# Altium footprint library THU VIEN 1.PcbLib: 29 footprints (part 1 of 2)
Each footprint in its own frame and in the unit in brackets; x right, y up, seen from the top. Pads: shape width x height; smd on the part's side, far side on the other; paste and mask are expansions set on the pad; w line width, h text height; cw(c..) or ccw(c..) is an arc to the next point about the centre after c.
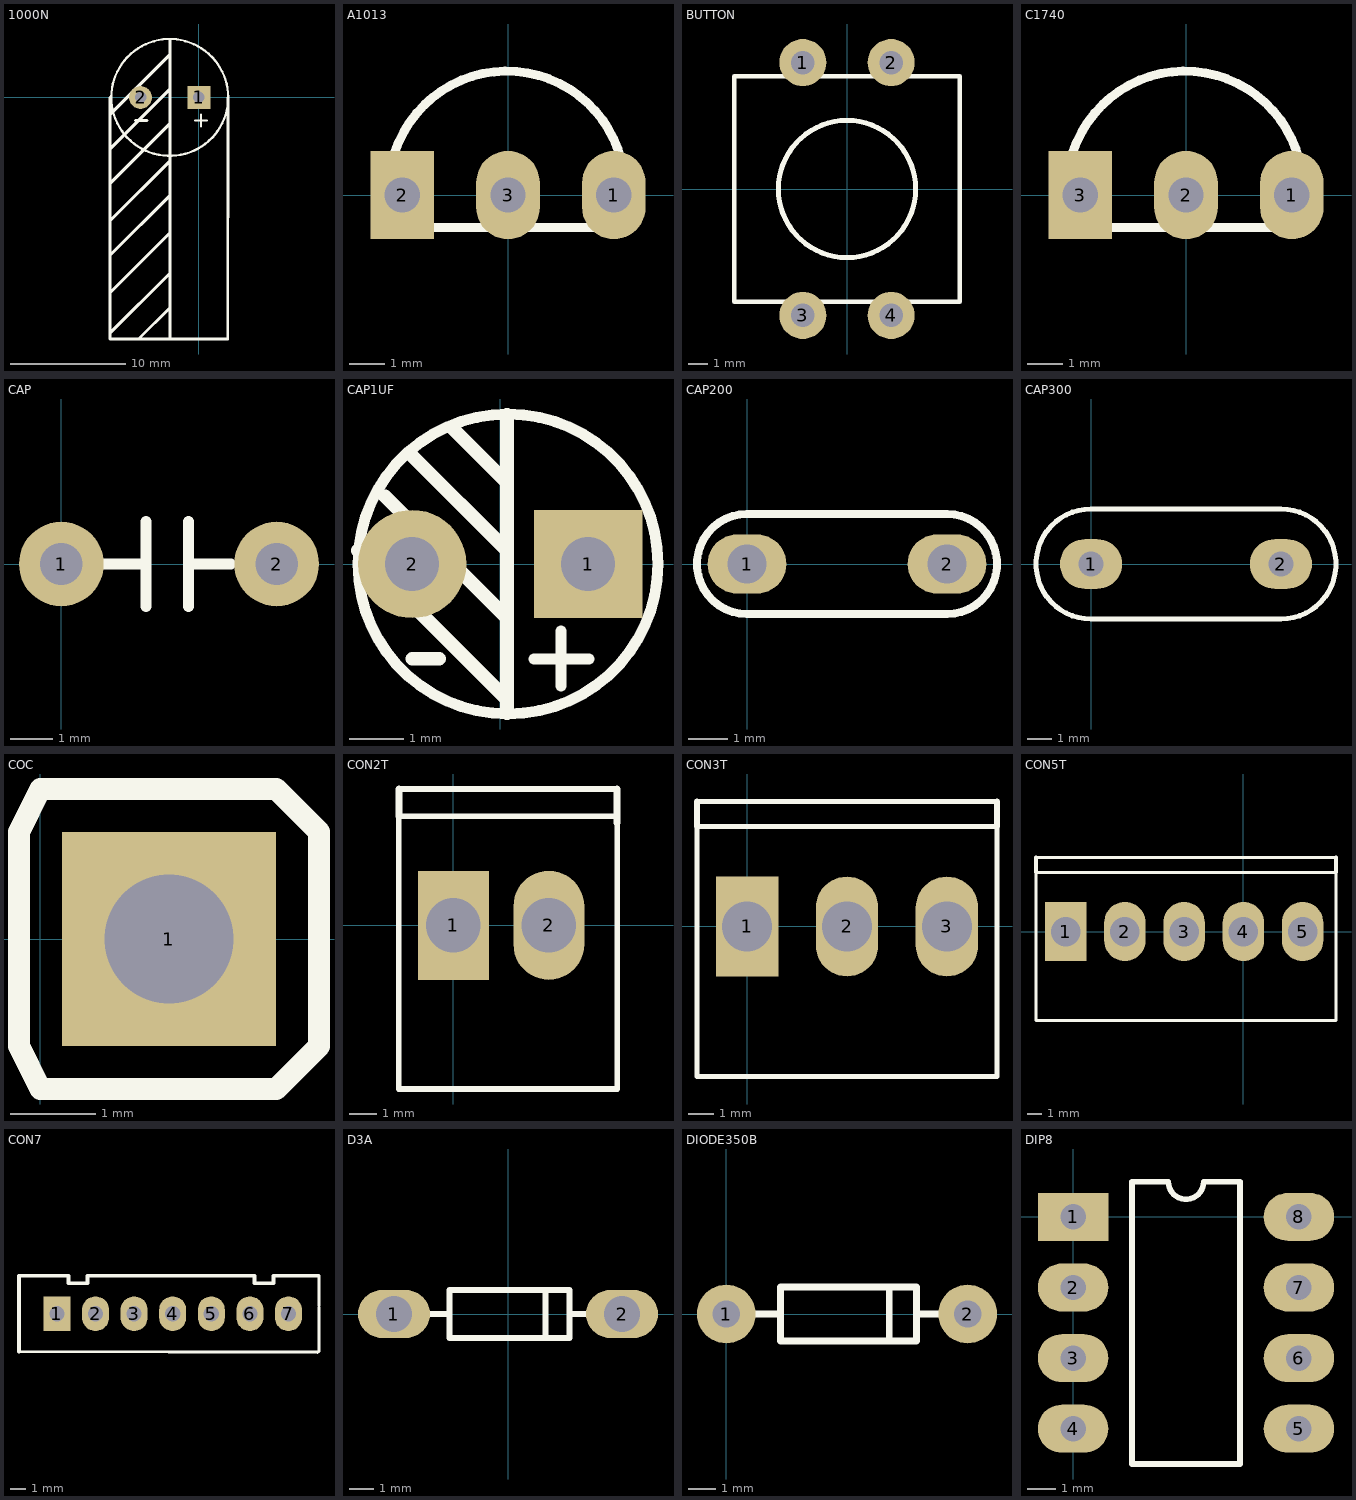
[diagram p0: the footprints below, top view; thin cyan lines are the x and y axes]

## 1000N [mm]
pads (2):
  rect 2x2 hole 1: 1(0,0)
  round 2 hole 1: 2(-5.08,0)
Top Overlay:
  circle w0.203: c-2.54,0 r5.08
  lines w0.203: -0.33,-2 0.686,-2 ; 0.17,-2.516 0.17,-1.5
  lines w0.254: -7.75,-20.5 -2.5,-15.25 ; -7.75,-17 -2.5,-11.75 ; -7.75,-13.75 -2.5,-8.5 ; -7.75,-10.75 -2.5,-5.5 ; -7.75,-7.5 -2.5,-2.25 ; -7.75,-1.5 -2.5,3.75 ; -7.75,0 -7.75,-21 2.5,-21 2.54,0 ; -5.5,-2 -4.5,-2 ; -2.5,-21 -2.5,5 ; -2.5,-18.25 -5.25,-21 ; -2.5,0.75 -7.75,-4.5 ; -7.75,-4.5 -7.75,-4.5 ; -5.25,-21 -5.25,-21

## A1013 [mm]
pads (3):
  oval 1.8x2.5 hole 1: 1(3,0) 3(0,0)
  rect 1.8x2.5 hole 1: 2(-3,0)
Top Overlay:
  lines w0.254: -3.17,-0.972 cw(c-0.03,0.171) 3.141,-0.88 ; -2.53,-0.921 2.53,-0.921

## BUTTON [mm]
pads (4):
  round 2.4 hole 1.2: 1(-2.25,6.45) 2(2.25,6.45) 3(-2.25,-6.45) 4(2.25,-6.45)
Top Overlay:
  circle w0.254: c0,0 r3.5
  lines w0.254: -5.75,-5.75 5.75,-5.75 5.75,5.75 -5.75,5.75 -5.75,-5.75

## C1740 [mm]
pads (3):
  oval 1.8x2.5 hole 1: 1(3,0) 2(0,0)
  rect 1.8x2.5 hole 1: 3(-3,0)
Top Overlay:
  lines w0.254: -3.17,-0.972 cw(c-0.03,0.171) 3.141,-0.88 ; -2.53,-0.921 2.53,-0.921

## CAP [mm]
pads (2):
  round 2 hole 1: 1(0,0) 2(5.08,0)
Top Overlay:
  lines w0.254: 0,0 2,0 ; 2,-1 2,1 ; 3,-1 3,1 ; 3,0 4,0

## CAP1UF [mm]
pads (2):
  rect 2x2 hole 1: 1(1.625,0)
  round 2 hole 1: 2(-1.625,0)
Top Overlay:
  circle w0.203: c0.145,0 r2.77
  lines w0.203: 0.625,-1.75 1.641,-1.75 ; 1.125,-2.25 1.125,-1.234
  lines w0.254: -2.625,0.25 0.125,-2.5 ; -2.125,1.25 0.125,-1 ; -1.625,-1.75 -1.125,-1.75 ; -1.625,2 0.125,0.25 ; -0.875,2.5 0.125,1.5 ; 0.125,-2.75 0.125,2.75 ; 0.125,-1 0.125,-1 ; 0.125,0.25 0.125,0.25 ; 0.125,1.5 0.125,1.5

## CAP200 [mm]
pads (2):
  oval 2x1.5 hole 1: 1(0,0) 2(5.08,0)
Top Overlay:
  lines w0.203: 0,-1.27 cw(c0,0) 0,1.27 5.08,1.27 cw(c5.08,0) 5.08,-1.27 0,-1.27

## CAP300 [mm]
pads (2):
  oval 2.5x2 hole 1: 1(0,0) 2(7.62,0)
Top Overlay:
  lines w0.203: 0,-2.21 cw(c0,0) 0,2.21 7.62,2.21 cw(c7.62,0) 7.62,-2.21 0,-2.21

## COC [mm]
pads (1):
  rect 2.5x2.5 hole 1.5: 1(1.5,0)
Top Overlay:
  lines w0.254: -0.25,-1.25 0,-1.75 2.75,-1.75 3.25,-1.25 3.25,0 3.25,1.25 2.75,1.75 0,1.75 -0.25,1.25 -0.25,-1.25

## CON2T [mm]
pads (2):
  rect 2.6x4 hole 2: 1(0,0)
  oval 2.6x4 hole 2: 2(3.5,0)
Top Overlay:
  lines w0.203: -2,5 6,5 ; -2,-6 -2,4 6,4 6,-6 -2,-6
  lines w0.254: -2,4 -2,5 ; 6,3.75 6,5

## CON3T [mm]
pads (3):
  rect 2.5x4 hole 2: 1(0,0)
  oval 2.5x4 hole 2: 2(4,0) 3(8,0)
Top Overlay:
  lines w0.203: -2,5 10,5 ; -2,-6 -2,4 10,4 10,-6 -2,-6
  lines w0.254: -2,4 -2,5 ; 10,4 10,5

## CON5T [mm]
pads (5):
  rect 2.8x4 hole 2: 1(-12,0)
  oval 2.8x4 hole 2: 2(-8,0) 3(-4,0) 4(0,0) 5(4,0)
Top Overlay:
  lines w0.203: -14,5 6.25,5 ; -14,-6 -14,4 6.25,4 6.25,-6 -14,-6
  lines w0.254: -14,4 -14,5 ; 6.25,4 6.25,5

## CON7 [mm]
pads (7):
  rect 1.778x2.286 hole 1: 1(31.25,305.25)
  oval 1.778x2.286 hole 1: 2(33.79,305.25) 3(36.33,305.25) 4(38.87,305.25) 5(41.41,305.25) 6(43.95,305.25) 7(46.49,305.25)
Top Overlay:
  lines w0.203: 28.75,302.75 48.395,302.71 ; 45.5,307.75 48.5,307.75 ; 48.5,302.75 48.5,305.655 ; 48.5,305.75 48.5,307.655
  lines w0.254: 28.75,302.75 28.75,307.75 32,307.75 32,307.25 33.25,307.25 33.25,307.75 44.25,307.75 44.25,307.25 45.5,307.25 45.5,307.75

## D3A [mm]
pads (2):
  oval 3x2 hole 1.5: 1(-4.75,0) 2(4.75,0)
Top Overlay:
  lines w0.254: -3.445,0 -2.445,0 ; 1.555,-1 1.555,1 ; 2.555,0 3.555,0 ; -2.445,-1 2.555,-1 2.555,1 -2.445,1 -2.445,-1

## DIODE350B [mil]
pads (2):
  round 85 hole 39.37: 1(0,0) 2(350,0)
Top Overlay:
  lines w10: 39.37,0 78.74,0 ; 236.22,-39.37 236.22,39.37 ; 275.59,0 314.96,0 ; 78.74,-39.37 78.74,39.37 275.59,39.37 275.59,-39.37 78.74,-39.37

## DIP8 [mm]
pads (8):
  rect 2.5x1.7 hole 0.9: 1(0,0)
  oval 2.5x1.7 hole 0.9: 2(0,-2.5) 3(0,-5) 4(0,-7.5) 5(8,-7.5) 6(8,-5) 7(8,-2.5) 8(8,0)
Top Overlay:
  lines w0.2: 2.085,-8.75 2.085,1.25 3.375,1.25 ccw(c4,1.25) 4.625,1.25 5.915,1.25 5.915,-8.75 2.085,-8.75